# Altium schematic symbol library SN74LVC1G08DCKR AND Gate.SchLib: 1 symbol
Pins are listed as number, name and electrical type; pins without a type are passive.

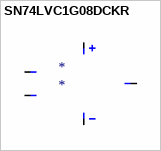
[diagram p0: symbol SN74LVC1G08DCKR]

## SN74LVC1G08DCKR
designator *
pins: 1 A, 2 B, 3 GND, 4 Y, 5 Vcc